# Altium footprint library domino.PcbLib: 1 footprints
Each footprint in its own frame and in the unit in brackets; x right, y up, seen from the top. Pads: shape width x height; smd on the part's side, far side on the other; paste and mask are expansions set on the pad; w line width, h text height; cw(c..) or ccw(c..) is an arc to the next point about the centre after c.
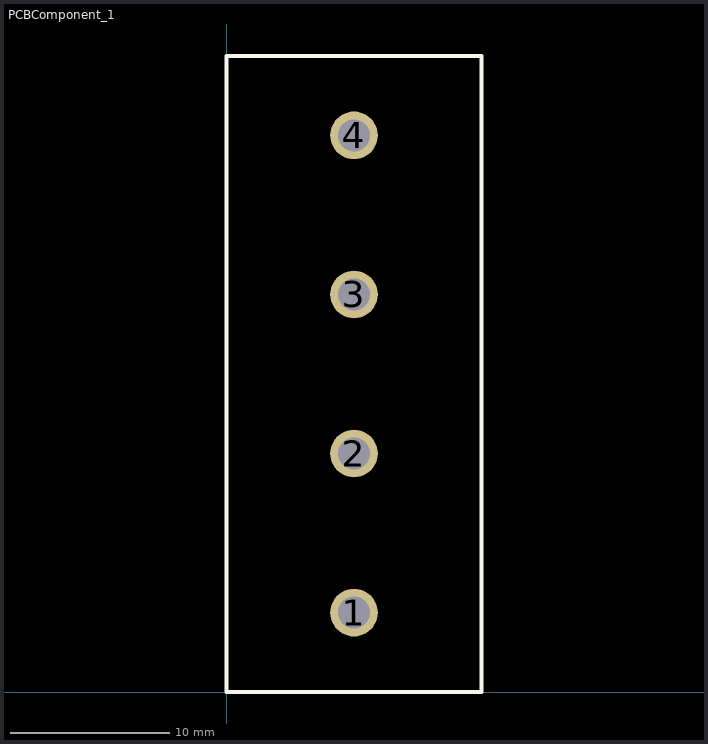
[diagram p0: the footprint, top view; thin cyan lines are the x and y axes]

## PCBComponent_1 [mm]
pads (4):
  round 3 hole 2: 1(8,5) 2(8,15) 3(8,25) 4(8,35)
Top Overlay:
  lines w0.254: 0,0 0,40 16,40 16,0 0,0